# Altium footprint library R-C2-23-0.5W.PcbLib: 1 footprints
Each footprint in its own frame and in the unit in brackets; x right, y up, seen from the top. Pads: shape width x height; smd on the part's side, far side on the other; paste and mask are expansions set on the pad; w line width, h text height; cw(c..) or ccw(c..) is an arc to the next point about the centre after c.
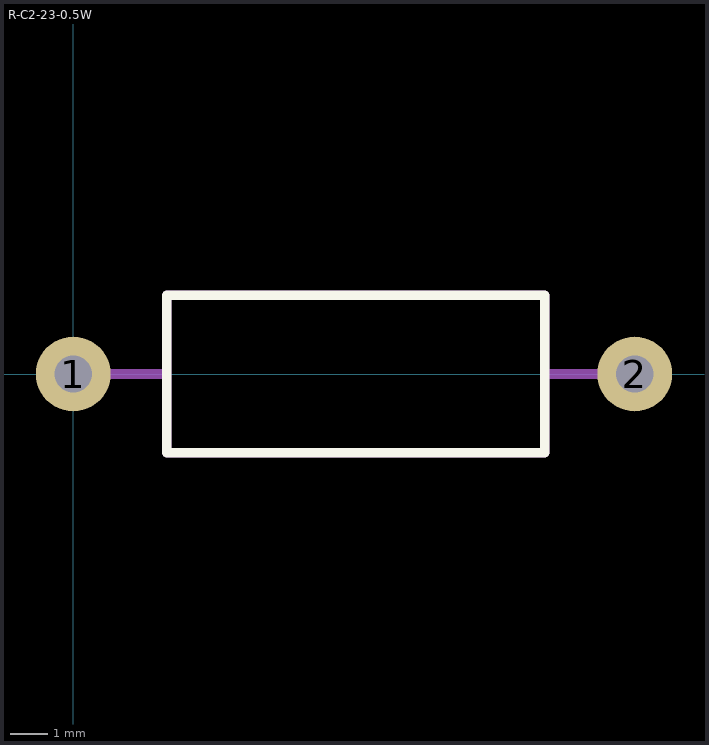
[diagram p0: the footprint, top view; thin cyan lines are the x and y axes]

## R-C2-23-0.5W [mm]
pads (2):
  round 2 hole 1: 1(0,0) 2(15,0)
Top Overlay:
  lines w0.254: 2.5,-2.1 2.5,2.1 12.6,2.1 12.6,-2.1 2.5,-2.1
TopAssy:
  lines w0.254: -0.1,0 2.5,0 ; 12.6,0 15,0 ; 2.5,-2.1 2.5,2.1 12.6,2.1 12.6,-2.1 2.5,-2.1
3D body "User Library-RES0_5L15.STEP": height 4.7, standoff -2.5, extent -0.3,-2.1 15.3,2.1